# EAGLE library part STM32F765VGH6 (library My_Library_2)
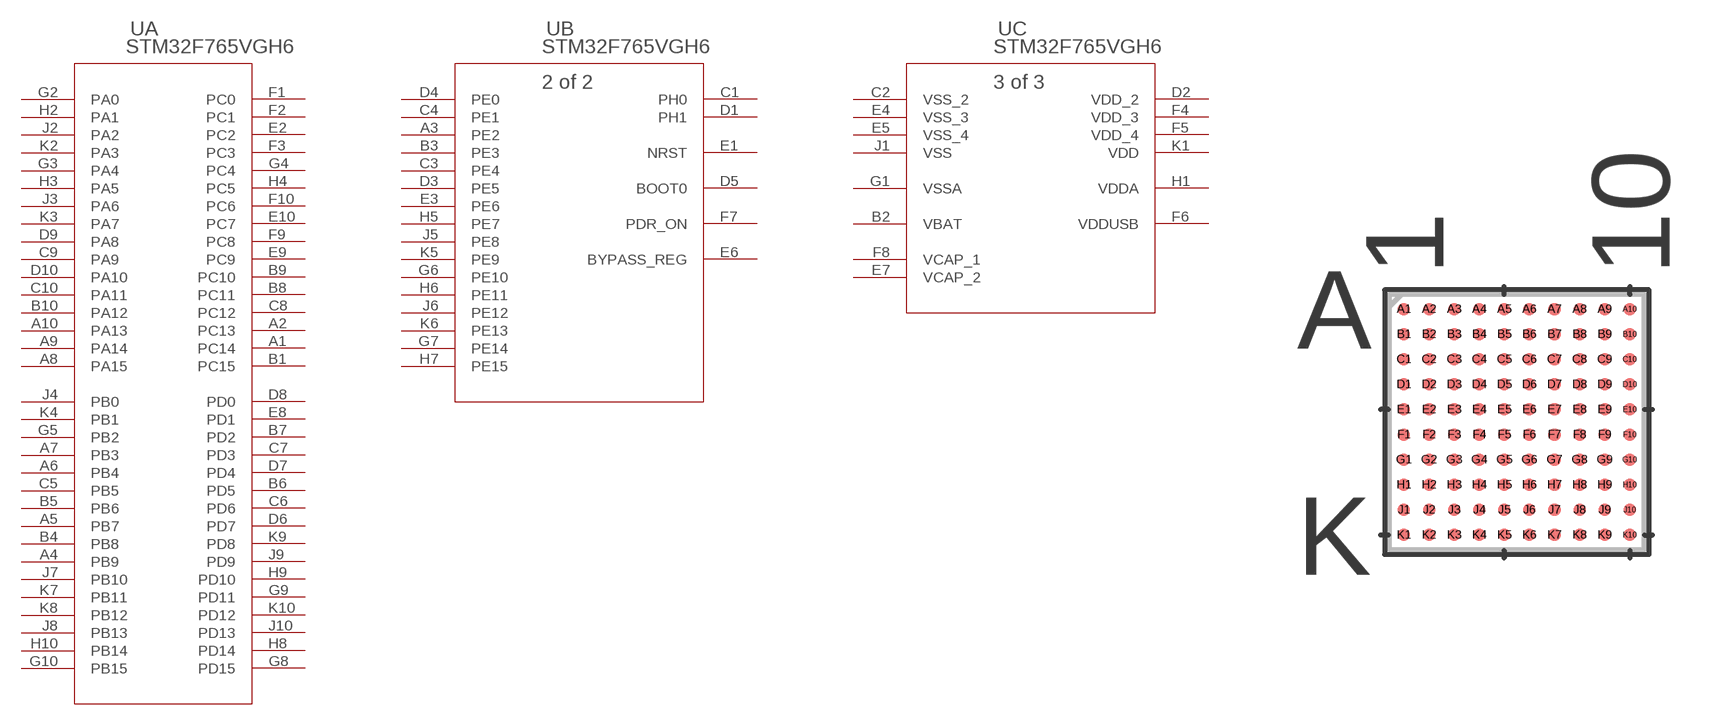
[diagram p8: symbol with the pads of TFBGA100_STM; footprint TFBGA100_STM]

Designator prefix U; gates A=STM32F765VGH6_A B=STM32F765VGH6_B C=STM32F765VGH6_C

## STM32F765VGH6 (COPYRIGHT: Copyright (C) 2025 Ultra Librarian. All rights reserved.; MANUFACTURER_PART_NUMBER: STM32F765VGH6; MFR_NAME: STMicroelectronics)  [TFBGA100_STM]
A1  A:PC14
A2  A:PC13
A3  B:PE2
A4  A:PB9
A5  A:PB7
A6  A:PB4
A7  A:PB3
A8  A:PA15
A9  A:PA14
A10  A:PA13
B1  A:PC15
B2  C:VBAT  pwr
B3  B:PE3
B4  A:PB8
B5  A:PB6
B6  A:PD5
B7  A:PD2
B8  A:PC11
B9  A:PC10
B10  A:PA12
C1  B:PH0
C2  C:VSS_2  pwr
C3  B:PE4
C4  B:PE1
C5  A:PB5
C6  A:PD6
C7  A:PD3
C8  A:PC12
C9  A:PA9
C10  A:PA11
D1  B:PH1
D2  C:VDD_2  pwr
D3  B:PE5
D4  B:PE0
D5  B:BOOT0  in
D6  A:PD7
D7  A:PD4
D8  A:PD0
D9  A:PA8
D10  A:PA10
E1  B:NRST
E2  A:PC2
E3  B:PE6
E4  C:VSS_3  pwr
E5  C:VSS_4  pwr
E6  B:BYPASS_REG
E7  C:VCAP_2  pwr
E8  A:PD1
E9  A:PC9
E10  A:PC7
F1  A:PC0
F2  A:PC1
F3  A:PC3
F4  C:VDD_3  pwr
F5  C:VDD_4  pwr
F6  C:VDDUSB  pwr
F7  B:PDR_ON
F8  C:VCAP_1  pwr
F9  A:PC8
F10  A:PC6
G1  C:VSSA  pwr
G2  A:PA0
G3  A:PA4
G4  A:PC4
G5  A:PB2
G6  B:PE10
G7  B:PE14
G8  A:PD15
G9  A:PD11
G10  A:PB15
H1  C:VDDA  pwr
H2  A:PA1
H3  A:PA5
H4  A:PC5
H5  B:PE7
H6  B:PE11
H7  B:PE15
H8  A:PD14
H9  A:PD10
H10  A:PB14
J1  C:VSS  pwr
J2  A:PA2
J3  A:PA6
J4  A:PB0
J5  B:PE8
J6  B:PE12
J7  A:PB10
J8  A:PB13
J9  A:PD9
J10  A:PD13
K1  C:VDD  pwr
K2  A:PA3
K3  A:PA7
K4  A:PB1
K5  B:PE9
K6  B:PE13
K7  A:PB11
K8  A:PB12
K9  A:PD8
K10  A:PD12

## Footprint TFBGA100_STM (pad centres in mm)
smd 0.406 x 0.406: A1 -3.6,3.6; A2 -2.8,3.6; A3 -2,3.6; A4 -1.2,3.6; A5 -0.4,3.6; A6 0.4,3.6; A7 1.2,3.6; A8 2,3.6; A9 2.8,3.6; A10 3.6,3.6; B1 -3.6,2.8; B2 -2.8,2.8; B3 -2,2.8; B4 -1.2,2.8; B5 -0.4,2.8; B6 0.4,2.8; B7 1.2,2.8; B8 2,2.8; B9 2.8,2.8; B10 3.6,2.8; C1 -3.6,2; C2 -2.8,2; C3 -2,2; C4 -1.2,2; C5 -0.4,2; C6 0.4,2; C7 1.2,2; C8 2,2; C9 2.8,2; C10 3.6,2; D1 -3.6,1.2; D2 -2.8,1.2; D3 -2,1.2; D4 -1.2,1.2; D5 -0.4,1.2; D6 0.4,1.2; D7 1.2,1.2; D8 2,1.2; D9 2.8,1.2; D10 3.6,1.2; E1 -3.6,0.4; E2 -2.8,0.4; E3 -2,0.4; E4 -1.2,0.4; E5 -0.4,0.4; E6 0.4,0.4; E7 1.2,0.4; E8 2,0.4; E9 2.8,0.4; E10 3.6,0.4; F1 -3.6,-0.4; F2 -2.8,-0.4; F3 -2,-0.4; F4 -1.2,-0.4; F5 -0.4,-0.4; F6 0.4,-0.4; F7 1.2,-0.4; F8 2,-0.4; F9 2.8,-0.4; F10 3.6,-0.4; G1 -3.6,-1.2; G2 -2.8,-1.2; G3 -2,-1.2; G4 -1.2,-1.2; G5 -0.4,-1.2; G6 0.4,-1.2; G7 1.2,-1.2; G8 2,-1.2; G9 2.8,-1.2; G10 3.6,-1.2; H1 -3.6,-2; H2 -2.8,-2; H3 -2,-2; H4 -1.2,-2; H5 -0.4,-2; H6 0.4,-2; H7 1.2,-2; H8 2,-2; H9 2.8,-2; H10 3.6,-2; J1 -3.6,-2.8; J2 -2.8,-2.8; J3 -2,-2.8; J4 -1.2,-2.8; J5 -0.4,-2.8; J6 0.4,-2.8; J7 1.2,-2.8; J8 2,-2.8; J9 2.8,-2.8; J10 3.6,-2.8; K1 -3.6,-3.6; K2 -2.8,-3.6; K3 -2,-3.6; K4 -1.2,-3.6; K5 -0.4,-3.6; K6 0.4,-3.6; K7 1.2,-3.6; K8 2,-3.6; K9 2.8,-3.6; K10 3.6,-3.6